# Altium schematic symbol library 43645-0400.Schlib: 1 symbol
Pins are listed as number, name and electrical type; pins without a type are passive.

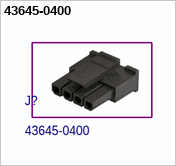
[diagram p0: symbol 43645-0400]

## 43645-0400
designator J?